# EAGLE library part MINI-14MS (library z-comm)
VCO
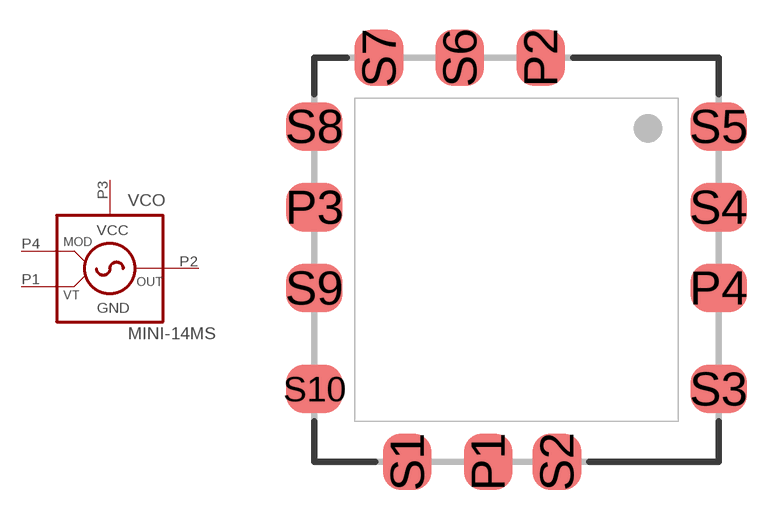
[diagram p9: symbol with the pads of MINI-14MS; footprint MINI-14MS]

Designator prefix VCO

## MINI-14MS  [MINI-14MS]
P1  VT  in
P2  OUT  out
P3  VCC  pwr
P4  MOD  in
S1  S1  pwr
S2  S2  pwr
S3  S3  pwr
S4  S4  pwr
S5  S5  pwr
S6  S6  pwr
S7  S7  pwr
S8  S8  pwr
S9  S9  pwr
S10  S10  pwr

## Footprint MINI-14MS (pad centres in mm)
VCO MINI-14MS
smd 1.524 x 1.778: P1 -0.889,-6.35; P2 0.762,6.35; S1 -3.429,-6.35; S2 1.27,-6.35; S6 -1.778,6.35; S7 -4.318,6.35
smd 1.778 x 1.524: P3 -6.35,1.651; P4 6.35,-0.889; S3 6.35,-4.064; S4 6.35,1.651; S5 6.35,4.191; S8 -6.35,4.191; S9 -6.35,-0.889; S10 -6.35,-4.064